# Altium schematic symbol library IC_Switch_Mux_Demux.SchLib: 10 symbols
Pins are listed as number, name and electrical type; pins without a type are passive.

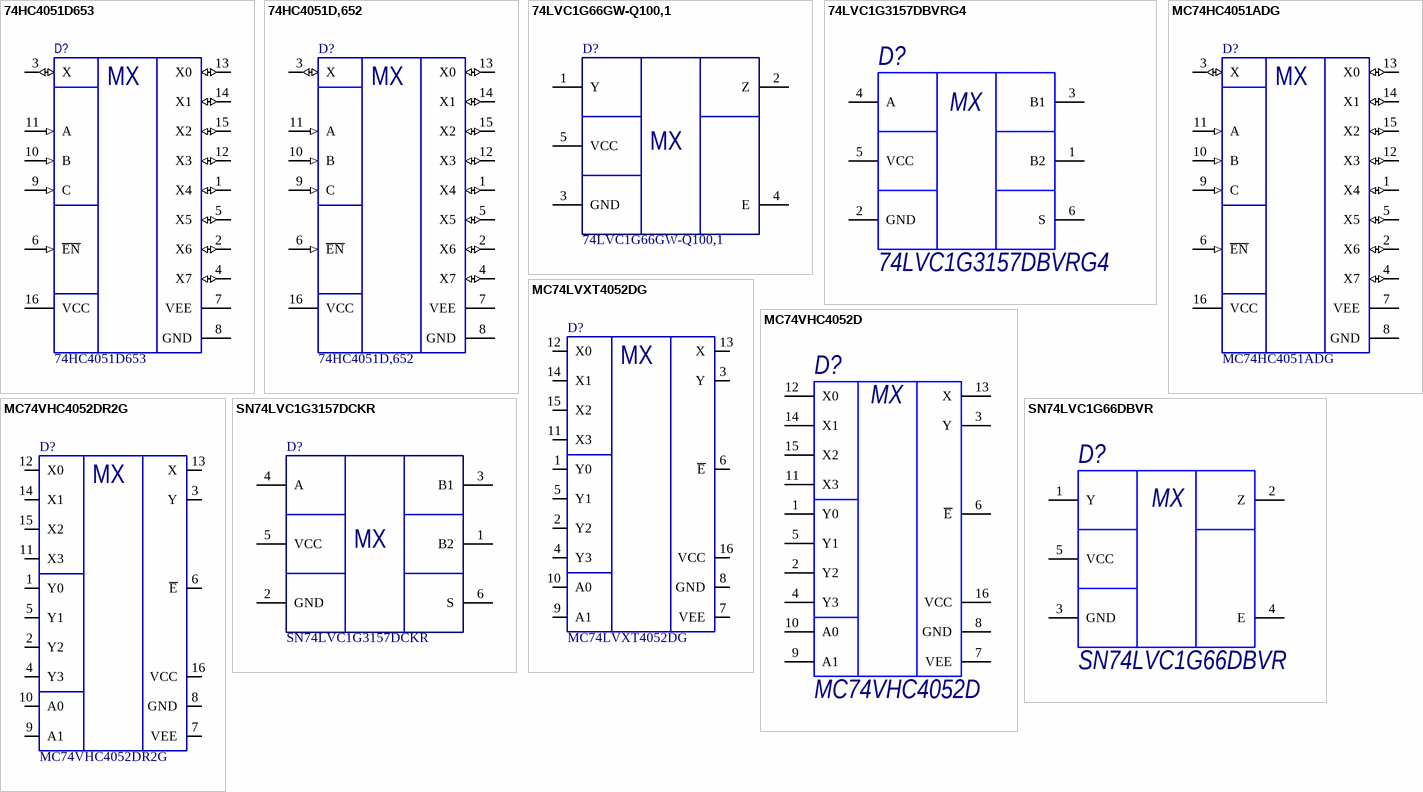
[diagram p0: symbols 74HC4051D653 to SN74LVC1G3157DCKR]

## 74HC4051D653
designator D?
Микросхема аналоговый мультиплексор; Manufacturer: NXP Semiconductors; Min Supply Voltage: 2V; Max Supply Voltage: 10V; Min Dual Supply Voltage: 1V; Max Dual Supply Voltage: 5V; Power Dissipation: 500mW; Logic Function: Multiplexer,Demultiplexer,Mux,Demux; Number of Outputs: 1; Nominal Supply Current: 50mA; Propagation Delay: 4ns; Number of Inputs: 8; Dual Supply Voltage: 2.5V; On-State Resistance: 140R; Operating Supply Current: 16uA; Turn-On Delay Time: 345ns; Turn-Off Delay Time: 290ns; Supply Type: Single,Dual; Bandwidth: 180MHz; Low Level Output Current: 25mA; ComponentDescription: =ComponentType+ ', '+Comment+', '+Package; Supplier 1: Avnet; Manufacturer Part Number: 74HC4051D653; RoHS: Yes; Category: Interface ICs; Stock 1: 337500; Pricing 1: 2500=0,07526, 5000=0,07420, 10000=0,07208, 15000=0,07049, 20000=0,06784, 25000=0,06625, 250000=0,06466 (USD); Mount: Surface Mount; Case/Package: SO; Number of Pins: 16; Weight: 0.01lb; Contact Plating: Gold; Min Operating Temperature: -40°C; Max Operating Temperature: 125°C; Packaging: Tape and Reel; Number of Circuits: 1; Package Quantity: 2500; Max Power Dissipation: 500mW; Number of Channels: 1; Operating Supply Voltage: 5V; Number of Gates: 1; High Level Output Current: 25mA; Length: 1inch; Width: 0.5inch; Height: 0.25inch; Radiation Hardening: No; Lead Free: Lead Free; REACH SVHC: No SVHC; ComponentLink1URL: https://datasheet.ciiva.com/16332/74hc-hct4051-16332393.pdf?src-supplier=Future+Electronics; ComponentLink1Description: https://datasheet.ciiva.com/16332/74hc-hct4051-16332393.pdf?src-supplier=Future+Electronics; ComponentLink2URL: https://datasheet.ciiva.com/1667/74hc-hct4051-1667006.pdf?src-supplier=Digi-Key; ComponentLink2Description: https://datasheet.ciiva.com/1667/74hc-hct4051-1667006.pdf?src-supplier=Digi-Key; ComponentLink3URL: https://datasheet.ciiva.com/1667/74hc-hct4051-1667007.pdf?src-supplier=Digi-Key; ComponentLink3Description: https://datasheet.ciiva.com/1667/74hc-hct4051-1667007.pdf?src-supplier=Digi-Key; ComponentLink4URL: https://datasheet.ciiva.com/22777/1645588-22777567.pdf?src-supplier=Farnell; ComponentLink4Description: https://datasheet.ciiva.com/22777/1645588-22777567.pdf?src-supplier=Farnell; ComponentType: Микросхема аналоговый мультиплексор; Supplier Part Number 1: 74HC4051D,653
footprint 16-SOIC (SOIC, 16-Leads, Body 9,90x3,90mm, Pitch 1,27mm, IPC Medium Density)
pins: 1 X4 (io), 2 X6 (io), 3 X (io), 4 X7 (io), 5 X5 (io), 6 ~{EN} (in), 7 VEE (power), 8 GND (power), 9 C (in), 10 B (in), 11 A (in), 12 X3 (io), 13 X0 (io), 14 X1 (io), 15 X2 (io), 16 VCC (power)
text: MX

## 74HC4051D,652
designator D?
Микросхема аналоговый мультиплексор; Manufacturer: Philips; Logic Function: Multiplexer,Demultiplexer; Nominal Supply Current: 50mA; ComponentDescription: =ComponentType+ ', '+Comment+', '+Package; Supplier 1: Digi-Key; Manufacturer Part Number: 74HC4051D,652; RoHS: No; Category: Interface ICs; Stock 1: 2910; Pricing 1: 1=0,36000, 10=0,29000, 25=0,26520, 100=0,19730, 250=0,17880, 500=0,14798, 1000=0,11098, 2500=0,10173, 5000=0,09557 (USD); Case/Package: SO; Number of Pins: 16; Packaging: Bulk; Lead Free: Lead Free; ComponentType: Микросхема аналоговый мультиплексор; Supplier Part Number 1: 1727-3789-ND
footprint 16-SOIC (SOIC, 16-Leads, Body 9,90x3,90mm, Pitch 1,27mm, IPC Medium Density)
pins: 1 X4 (io), 2 X6 (io), 3 X (io), 4 X7 (io), 5 X5 (io), 6 ~{EN} (in), 7 VEE (power), 8 GND (power), 9 C (in), 10 B (in), 11 A (in), 12 X3 (io), 13 X0 (io), 14 X1 (io), 15 X2 (io), 16 VCC (power)
text: MX

## 74LVC1G66GW-Q100,1
designator D?
Микросхема аналоговый ключ; Manufacturer: NXP Semiconductors; Min Supply Voltage: 1.65V; Max Supply Voltage: 5.5V; Number of Inputs: 1; On-State Resistance: 15R; Power Dissipation: 250mW; Throw Configuration: SPST; Operating Supply Current: 200uA; Supply Type: Single; Polarity: Non-Inverting; High Level Output Current: 50mA; ComponentDescription: =ComponentType+ ', '+Comment+', '+Package; Supplier 1: Digi-Key; Manufacturer Part Number: 74LVC1G66GW-Q100,1; RoHS: Yes; Category: Logic Gates; Stock 1: 70; Pricing 1: 1=0,32000, 10=0,24100, 25=0,21080, 100=0,13640, 250=0,11288, 500=0,09030, 1000=0,06923 (USD); Mount: Surface Mount; Case/Package: TSSOP; Number of Pins: 5; Min Operating Temperature: -40°C; Max Operating Temperature: 125°C; Packaging: Tape and Reel; Package Quantity: 3000; Number of Outputs: 1; Number of Channels: 1; Max Power Dissipation: 250mW; Low Level Output Current: 50mA; Series: 74LVC; Radiation Hardening: No; RoHS Compliant: Yes; ComponentLink1URL: https://datasheet.ciiva.com/6637/74lvc1g66-q100-6637549.pdf?src-supplier=Digi-Key; ComponentLink1Description: https://datasheet.ciiva.com/6637/74lvc1g66-q100-6637549.pdf?src-supplier=Digi-Key; ComponentType: Микросхема аналоговый ключ; Supplier Part Number 1: 1727-7462-1-ND
footprint SOT-323-5 (SOTFL, 6-Leads, Body 2,00x2,10mm, Pitch 0,65mm, IPC Medium Density)
pins: 1 Y, 2 Z, 3 GND, 4 E, 5 VCC
text: MX

## 74LVC1G3157DBVRG4
designator D?
Микросхема аналоговый ключ; Manufacturer: Texas Instruments; Nominal Supply Current: 1uA; Max Supply Voltage: 5.5V; Min Supply Voltage: 1.65V; Number of Inputs: 1; Number of Outputs: 2; On-State Resistance: 15R; Turn-On Delay Time: 24ns; Turn-Off Delay Time: 13ns; Max Supply Current: 10uA; Supply Type: Single; Throw Configuration: SPDT; Propagation Delay: 300ps; Bandwidth: 300MHz; Low Level Output Current: 128mA; ComponentDescription: =ComponentType+ ', '+Comment+', '+Package; Supplier 1: Arrow Electronics; Manufacturer Part Number: 74LVC1G3157DBVRG4; RoHS: Yes; Category: Decoders and Multiplexers; Pricing 1: 3000=0,08990, 30000=0,08840, 300000=0,07970, 1500000=0,07520, 3000000=0,07510 (USD); Mount: Surface Mount; Case/Package: SOT-23-6; Number of Pins: 6; Weight: 0.000229oz; Contact Plating: Gold; Min Operating Temperature: -40°C; Max Operating Temperature: 125°C; Package Quantity: 3000; Packaging: Tape and Reel; Number of Channels: 1; Operating Supply Current: 1uA; Number of Bits: 1; High Level Output Current: 128mA; Series: 74LVC; Supply Current: 1uA; Length: 2.9mm; Width: 1.6mm; Height: 1.15mm; Radiation Hardening: No; Lead Free: Lead Free; RoHS Compliant: Yes; ComponentLink1URL: https://datasheet.ciiva.com/1680/sn74lvc1g3157-1680110.pdf?src-supplier=Digi-Key; ComponentLink1Description: https://datasheet.ciiva.com/1680/sn74lvc1g3157-1680110.pdf?src-supplier=Digi-Key; ComponentLink2URL: https://datasheet.ciiva.com/2979/sn74lvc1g3157-2979084.pdf?src-supplier=Avnet; ComponentLink2Description: https://datasheet.ciiva.com/2979/sn74lvc1g3157-2979084.pdf?src-supplier=Avnet; ComponentType: Микросхема аналоговый ключ; Supplier Part Number 1: 74LVC1G3157DBVRG4
footprint SOT-23-6 (SOT23, 6-Leads, Body 2,90x2,30mm, Pitch 0,95mm, IPC Medium Density)
pins: 1 B2, 2 GND, 3 B1, 4 A, 5 VCC, 6 S
text: MX

## MC74HC4051ADG
designator D?
Микросхема аналоговый мультиплексор; Manufacturer: ON Semiconductor; Number of Channels: 1; Bandwidth: 80MHz; Propagation Delay: 40ns; Logic Function: Multiplexer,Demultiplexer,Mux,Demux; On-State Resistance: 100R; Supply Type: Single,Dual; Turn-On Delay Time: 245ns; Turn-Off Delay Time: 160ns; Min Supply Voltage: 2V; Max Supply Voltage: 6V; Min Dual Supply Voltage: 1V; Number of Inputs: 8; Max Power Dissipation: 500mW; Nominal Supply Current: 80uA; Operating Supply Current: 40uA; Number of Functions: 2; ComponentDescription: =ComponentType+ ', '+Comment+', '+Package; ComponentType: Микросхема аналоговый мультиплексор; Supplier 1: Digi-Key; Manufacturer Part Number: MC74HC4051ADG; RoHS: Yes; Category: Decoders and Multiplexers; Stock 1: 3185; Pricing 1: 1=0,49000, 10=0,41500, 25=0,38760, 100=0,31020, 250=0,28800, 500=0,24370, 1000=0,18831, 2500=0,17169, 5000=0,16062 (USD); Case/Package: SOIC; Number of Pins: 16; Min Operating Temperature: -55°C; Max Operating Temperature: 125°C; Package Quantity: 48; Packaging: Rail/Tube; Max Dual Supply Voltage: 6V; Number of Outputs: 1; Series: 74HC; Number of Switches: 1; Power Dissipation: 500mW; Number of Circuits: 1; Supply Voltage-Nom: 6V; Supply Current: 80uA; Length: 10mm; Width: 4mm; Height: 1.5mm; Radiation Hardening: No; Lead Free: Lead Free; RoHS Compliant: Yes; REACH SVHC: No SVHC; Halogen Free: Halogen Free; ComponentLink1URL: https://datasheet.ciiva.com/15126/getdatasheetpartid-69092-15126974.pdf?src-supplier=Verical; ComponentLink1Description: https://datasheet.ciiva.com/15126/getdatasheetpartid-69092-15126974.pdf?src-supplier=Verical; ComponentLink2URL: https://datasheet.ciiva.com/1514/mc74hc4051a-d-1514438.pdf?src-supplier=Element14; ComponentLink2Description: https://datasheet.ciiva.com/1514/mc74hc4051a-d-1514438.pdf?src-supplier=Element14; ComponentLink3URL: https://datasheet.ciiva.com/6638/mc74hc4051a-d-6638408.pdf?src-supplier=Digi-Key; ComponentLink3Description: https://datasheet.ciiva.com/6638/mc74hc4051a-d-6638408.pdf?src-supplier=Digi-Key; ComponentLink4URL: https://datasheet.ciiva.com/26228/mc74hc4051a-d-26228200.pdf?src-supplier=Avnet+Europe; ComponentLink4Description: https://datasheet.ciiva.com/26228/mc74hc4051a-d-26228200.pdf?src-supplier=Avnet+Europe; ComponentLink5URL: https://datasheet.ciiva.com/8246/mc74hc4051a-d-8246427.pdf?src-supplier=Avnet; ComponentLink5Description: https://datasheet.ciiva.com/8246/mc74hc4051a-d-8246427.pdf?src-supplier=Avnet; Supplier Part Number 1: MC74HC4051ADGOS-ND
footprint 16-SOIC (SOIC, 16-Leads, Body 9,90x3,90mm, Pitch 1,27mm, IPC Medium Density)
pins: 1 X4 (io), 2 X6 (io), 3 X (io), 4 X7 (io), 5 X5 (io), 6 ~{EN} (in), 7 VEE (power), 8 GND (power), 9 C (in), 10 B (in), 11 A (in), 12 X3 (io), 13 X0 (io), 14 X1 (io), 15 X2 (io), 16 VCC (power)
text: MX

## MC74LVXT4052DG
designator D?
Микросхема аналоговый мультиплексор; Manufacturer: ON Semiconductor; Propagation Delay: 40ns; On-State Resistance: 55R; Number of Channels: 1; Max Power Dissipation: 500mW; Logic Function: Multiplexer,Demultiplexer; Operating Supply Current: 40uA; Max Supply Voltage: 6V; Min Supply Voltage: 2.5V; Bandwidth: 80MHz; Supply Type: Dual; Throw Configuration: 4PST; Min Dual Supply Voltage: 1.25V; Number of Inputs: 8; Number of Outputs: 2; Max Dual Supply Voltage: 3V; ComponentDescription: =ComponentType+ ', '+Comment+', '+Package; ComponentType: Микросхема аналоговый мультиплексор; Supplier 1: Digi-Key; Manufacturer Part Number: MC74LVXT4052DG; RoHS: Yes; Category: Decoders and Multiplexers; Stock 1: 833; Pricing 1: 1=0,66000, 10=0,58100, 25=0,54560, 100=0,44530, 250=0,41360, 500=0,35200, 1000=0,28160, 2500=0,25520, 5000=0,23760 (USD); Mount: Surface Mount; Case/Package: SOIC; Number of Pins: 16; Min Operating Temperature: -55°C; Max Operating Temperature: 125°C; Packaging: Rail/Tube; Package Quantity: 48; Turn-On Delay Time: 40ns; Turn-Off Delay Time: 40ns; Power Dissipation: 500mW; Series: 74LVXT; Number of Switches: 2; Lead Free: Lead Free; RoHS Compliant: Yes; Halogen Free: Halogen Free; ComponentLink1URL: https://datasheet.ciiva.com/1681/mc74lvxt4052-d-1681381.pdf?src-supplier=Digi-Key; ComponentLink1Description: https://datasheet.ciiva.com/1681/mc74lvxt4052-d-1681381.pdf?src-supplier=Digi-Key; Supplier Part Number 1: MC74LVXT4052DG-ND
footprint 16-SOIC (SOIC, 16-Leads, Body 9,90x3,90mm, Pitch 1,27mm, IPC Medium Density)
pins: 1 Y0, 2 Y2, 3 Y, 4 Y3, 5 Y1, 6 ~{E}, 7 VEE, 8 GND, 9 A1, 10 A0, 11 X3, 12 X0, 13 X, 14 X1, 15 X2, 16 VCC
text: MX

## MC74VHC4052D
designator D?
Микросхема аналоговый мультиплексор; Manufacturer: NXP Freescale; ComponentDescription: =ComponentType+ ', '+Comment+', '+Package; ComponentType: Микросхема аналоговый мультиплексор; Supplier 1: Arrow Electronics; Manufacturer Part Number: MC74VHC4052D; RoHS: Yes; Case/Package: SOIC; Supplier Part Number 1: MC74VHC4052D
footprint 16-SOIC (SOIC, 16-Leads, Body 9,90x3,90mm, Pitch 1,27mm, IPC Medium Density)
pins: 1 Y0, 2 Y2, 3 Y, 4 Y3, 5 Y1, 6 ~{E}, 7 VEE, 8 GND, 9 A1, 10 A0, 11 X3, 12 X0, 13 X, 14 X1, 15 X2, 16 VCC
text: MX

## MC74VHC4052DR2G
designator D?
Микросхема аналоговый мультиплексор; Manufacturer: ON Semiconductor; Bandwidth: 95MHz; Propagation Delay: 40ns; Number of Channels: 2; Logic Function: Multiplexer,Demultiplexer; On-State Resistance: 100R; Turn-On Delay Time: 245ns; Turn-Off Delay Time: 160ns; Supply Type: Single,Dual; Min Supply Voltage: 2V; Max Supply Voltage: 6V; Min Dual Supply Voltage: 1V; Throw Configuration: SP4T; Number of Inputs: 8; Max Power Dissipation: 500mW; Number of Circuits: 1; ComponentDescription: =ComponentType+ ', '+Comment+', '+Package; ComponentType: Микросхема аналоговый мультиплексор; Supplier 1: Digi-Key; Manufacturer Part Number: MC74VHC4052DR2G; RoHS: Yes; Category: Decoders and Multiplexers; Stock 1: 1270; Pricing 1: 1=0,61000, 10=0,52500, 25=0,49000, 100=0,39200, 250=0,36400, 500=0,30800, 1000=0,29400 (USD); Mount: Surface Mount; Case/Package: SOIC; Number of Pins: 16; Min Operating Temperature: -55°C; Max Operating Temperature: 125°C; Packaging: Tape and Reel; Package Quantity: 1; Series: 74VHC; Max Dual Supply Voltage: 6V; Number of Outputs: 2; Number of Switches: 2; Power Dissipation: 500mW; Length: 10mm; Width: 4mm; Height: 1.5mm; Radiation Hardening: No; RoHS Compliant: Yes; Lead Free: Lead Free; REACH SVHC: No SVHC; Halogen Free: Halogen Free; ComponentLink1URL: https://datasheet.ciiva.com/15087/getdatasheetpartid-389108-15087391.pdf?src-supplier=Verical; ComponentLink1Description: https://datasheet.ciiva.com/15087/getdatasheetpartid-389108-15087391.pdf?src-supplier=Verical; ComponentLink2URL: https://datasheet.ciiva.com/11579/mc74vhc4051-d-11579723.pdf?src-supplier=Avnet; ComponentLink2Description: https://datasheet.ciiva.com/11579/mc74vhc4051-d-11579723.pdf?src-supplier=Avnet; ComponentLink3URL: https://datasheet.ciiva.com/6638/mc74vhc4051-d-6638412.pdf?src-supplier=Digi-Key; ComponentLink3Description: https://datasheet.ciiva.com/6638/mc74vhc4051-d-6638412.pdf?src-supplier=Digi-Key; ComponentLink4URL: https://datasheet.ciiva.com/6638/mc74vhc4051-d-6638415.pdf?src-supplier=Digi-Key; ComponentLink4Description: https://datasheet.ciiva.com/6638/mc74vhc4051-d-6638415.pdf?src-supplier=Digi-Key; Supplier Part Number 1: MC74VHC4052DR2GOSCT-ND
footprint 16-SOIC (SOIC, 16-Leads, Body 9,90x3,90mm, Pitch 1,27mm, IPC Medium Density)
pins: 1 Y0, 2 Y2, 3 Y, 4 Y3, 5 Y1, 6 ~{E}, 7 VEE, 8 GND, 9 A1, 10 A0, 11 X3, 12 X0, 13 X, 14 X1, 15 X2, 16 VCC
text: MX

## SN74LVC1G66DBVR
designator D?
Микросхема аналоговый ключ; Manufacturer: Texas Instruments; Output Current: 50mA; Max Supply Voltage: 5.5V; Min Supply Voltage: 1.65V; Number of Channels: 1; Bandwidth: 195MHz; Nominal Supply Current: 1uA; On-State Resistance: 10R; Operating Supply Current: 10uA; Turn-On Delay Time: 4.2ns; Turn-Off Delay Time: 5ns; Throw Configuration: SPST; Supply Type: Single; Polarity: Non-Inverting; Propagation Delay: 600ps; ComponentDescription: =ComponentType+ ', '+Comment+', '+Package; ComponentType: Микросхема аналоговый ключ; Supplier 1: Digi-Key; Manufacturer Part Number: SN74LVC1G66DBVR; RoHS: Yes; Category: Interface ICs; Stock 1: 46414; Pricing 1: 1=0,38000, 10=0,28700, 25=0,25840, 100=0,17860, 250=0,15040, 500=0,12220, 1000=0,09870 (USD); Mount: Surface Mount; Case/Package: SOT-23; Number of Pins: 5; Weight: 0.000395oz; Contact Plating: Gold; Min Operating Temperature: -40°C; Max Operating Temperature: 85°C; Packaging: Tape and Reel; Number of Inputs: 1; Number of Outputs: 1; Package Quantity: 3000; Max Supply Current: 10uA; Termination: SMD/SMT; Number of Bits: 1; High Level Output Current: 50mA; Low Level Output Current: 50mA; Series: 74LVC; Supply Current: 1uA; Length: 3.05mm; Width: 1.75mm; Height: 1.3mm; Radiation Hardening: No; REACH SVHC: No SVHC; Lead Free: Lead Free; RoHS Compliant: Yes; ComponentLink1URL: https://datasheet.ciiva.com/1582/1768037-1582385.pdf?src-supplier=Farnell; ComponentLink1Description: https://datasheet.ciiva.com/1582/1768037-1582385.pdf?src-supplier=Farnell; ComponentLink2URL: https://datasheet.ciiva.com/15127/getdatasheetpartid-187019-15127385.pdf?src-supplier=Verical; ComponentLink2Description: https://datasheet.ciiva.com/15127/getdatasheetpartid-187019-15127385.pdf?src-supplier=Verical; ComponentLink3URL: https://datasheet.ciiva.com/27049/756828-27049785.pdf?src-supplier=Jameco; ComponentLink3Description: https://datasheet.ciiva.com/27049/756828-27049785.pdf?src-supplier=Jameco; ComponentLink4URL: https://datasheet.ciiva.com/41461/001187213-da-01-en-ic-switch-1-sn74lvc1g66dbvr-sot-23-5-tid-41461873.pdf?src-supplier=Conrad; ComponentLink4Description: https://datasheet.ciiva.com/41461/001187213-da-01-en-ic-switch-1-sn74lvc1g66dbvr-sot-23-5-tid-41461873.pdf?src-supplier=Conrad; ComponentLink5URL: https://datasheet.ciiva.com/1514/1856046-1514551.pdf?src-supplier=Element14; ComponentLink5Description: https://datasheet.ciiva.com/1514/1856046-1514551.pdf?src-supplier=Element14; ComponentLink6URL: https://datasheet.ciiva.com/1514/1856046-1514552.pdf?src-supplier=Element14; ComponentLink6Description: https://datasheet.ciiva.com/1514/1856046-1514552.pdf?src-supplier=Element14; ComponentLink7URL: https://datasheet.ciiva.com/1669/sn74lvc1g66-1669419.pdf?src-supplier=Digi-Key; ComponentLink7Description: https://datasheet.ciiva.com/1669/sn74lvc1g66-1669419.pdf?src-supplier=Digi-Key; ComponentLink8URL: https://datasheet.ciiva.com/1669/sn74lvc1g66-1669420.pdf?src-supplier=Digi-Key; ComponentLink8Description: https://datasheet.ciiva.com/1669/sn74lvc1g66-1669420.pdf?src-supplier=Digi-Key; ComponentLink9URL: https://datasheet.ciiva.com/26227/sn74lvc1g66-26227836.pdf?src-supplier=Avnet+Europe; ComponentLink9Description: https://datasheet.ciiva.com/26227/sn74lvc1g66-26227836.pdf?src-supplier=Avnet+Europe; ComponentLink10URL: https://datasheet.ciiva.com/1669/sn74lvc1g66-1669421.pdf?src-supplier=Digi-Key; ComponentLink10Description: https://datasheet.ciiva.com/1669/sn74lvc1g66-1669421.pdf?src-supplier=Digi-Key; ComponentLink11URL: https://datasheet.ciiva.com/2978/sn74lvc1g66-2978957.pdf?src-supplier=Avnet; ComponentLink11Description: https://datasheet.ciiva.com/2978/sn74lvc1g66-2978957.pdf?src-supplier=Avnet; ComponentLink12URL: https://datasheet.ciiva.com/16539/sn74lvc1g66-16539373.pdf?src-supplier=Avnet+Asia; ComponentLink12Description: https://datasheet.ciiva.com/16539/sn74lvc1g66-16539373.pdf?src-supplier=Avnet+Asia; Supplier Part Number 1: 296-13253-1-ND
footprint SOT-23-5 (SOT23, 5-Leads, Body 2,90x2,30mm, Pitch 0,95mm, IPC Medium Density)
pins: 1 Y, 2 Z, 3 GND, 4 E, 5 VCC
text: MX

## SN74LVC1G3157DCKR
designator D?
Микросхема аналоговый ключ; Manufacturer: Texas Instruments; Min Supply Voltage: 1.65V; Max Supply Voltage: 5.5V; Number of Channels: 1; Bandwidth: 300MHz; Number of Outputs: 2; Nominal Supply Current: 10uA; On-State Resistance: 15R; Operating Supply Current: 1uA; Turn-On Delay Time: 5.7ns; Turn-Off Delay Time: 3.8ns; Throw Configuration: SPDT; Supply Type: Single; Propagation Delay: 300ps; Polarity: Non-Inverting; Low Level Output Current: 128mA; ComponentDescription: =ComponentType+ ', '+Comment+', '+Package; ComponentType: Микросхема аналоговый ключ; Supplier 1: Digi-Key; Manufacturer Part Number: SN74LVC1G3157DCKR; RoHS: Yes; Category: Decoders and Multiplexers; Stock 1: 336841; Pricing 1: 1=0,37000, 10=0,30100, 25=0,25200, 100=0,15960, 250=0,12320, 500=0,10500, 1000=0,07140 (USD); Mount: Surface Mount; Case/Package: SC; Number of Pins: 6; Weight: 8.8E-05oz; Contact Plating: Gold; Min Operating Temperature: -40°C; Max Operating Temperature: 125°C; Packaging: Tape and Reel; Number of Inputs: 1; Package Quantity: 3000; Max Supply Current: 10uA; Termination: SMD/SMT; Number of Bits: 1; High Level Output Current: 128mA; Length: 2mm; Width: 1.25mm; Height: 0.9mm; Radiation Hardening: No; RoHS Compliant: Yes; REACH SVHC: No SVHC; Lead Free: Lead Free; ComponentLink1URL: https://datasheet.ciiva.com/34301/756764-34301477.pdf?src-supplier=Jameco; ComponentLink1Description: https://datasheet.ciiva.com/34301/756764-34301477.pdf?src-supplier=Jameco; ComponentLink2URL: https://datasheet.ciiva.com/15127/getdatasheetpartid-187022-15127388.pdf?src-supplier=Verical; ComponentLink2Description: https://datasheet.ciiva.com/15127/getdatasheetpartid-187022-15127388.pdf?src-supplier=Verical; ComponentLink3URL: https://datasheet.ciiva.com/41461/001187224-da-01-en-ic-switch-sn74lvc1g3157dckr-sc-70-6-tid-41461882.pdf?src-supplier=Conrad; ComponentLink3Description: https://datasheet.ciiva.com/41461/001187224-da-01-en-ic-switch-sn74lvc1g3157dckr-sc-70-6-tid-41461882.pdf?src-supplier=Conrad; ComponentLink4URL: https://datasheet.ciiva.com/1669/sn74lvc1g3157-1669380.pdf?src-supplier=Digi-Key; ComponentLink4Description: https://datasheet.ciiva.com/1669/sn74lvc1g3157-1669380.pdf?src-supplier=Digi-Key; ComponentLink5URL: https://datasheet.ciiva.com/1669/sn74lvc1g3157-1669381.pdf?src-supplier=Digi-Key; ComponentLink5Description: https://datasheet.ciiva.com/1669/sn74lvc1g3157-1669381.pdf?src-supplier=Digi-Key; ComponentLink6URL: https://datasheet.ciiva.com/14435/sn74lvc1g3157-14435733.pdf?src-supplier=Avnet; ComponentLink6Description: https://datasheet.ciiva.com/14435/sn74lvc1g3157-14435733.pdf?src-supplier=Avnet; ComponentLink7URL: https://datasheet.ciiva.com/1514/1857156-1514550.pdf?src-supplier=Element14; ComponentLink7Description: https://datasheet.ciiva.com/1514/1857156-1514550.pdf?src-supplier=Element14; ComponentLink8URL: https://datasheet.ciiva.com/1669/sn74lvc1g3157-1669382.pdf?src-supplier=Digi-Key; ComponentLink8Description: https://datasheet.ciiva.com/1669/sn74lvc1g3157-1669382.pdf?src-supplier=Digi-Key; ComponentLink9URL: https://datasheet.ciiva.com/46411/1786793-46411528.pdf?src-supplier=Element14; ComponentLink9Description: https://datasheet.ciiva.com/46411/1786793-46411528.pdf?src-supplier=Element14; ComponentLink10URL: https://datasheet.ciiva.com/16539/sn74lvc1g3157-16539371.pdf?src-supplier=Avnet+Asia; ComponentLink10Description: https://datasheet.ciiva.com/16539/sn74lvc1g3157-16539371.pdf?src-supplier=Avnet+Asia; Supplier Part Number 1: 296-14909-1-ND
footprint SOT-323-6 (SOTFL, 6-Leads, Body 2,00x2,10mm, Pitch 0,65mm, IPC Medium Density)
pins: 1 B2, 2 GND, 3 B1, 4 A, 5 VCC, 6 S
text: MX